# Altium footprint library 1206RGB.PcbLib: 1 footprints
Each footprint in its own frame and in the unit in brackets; x right, y up, seen from the top. Pads: shape width x height; smd on the part's side, far side on the other; paste and mask are expansions set on the pad; w line width, h text height; cw(c..) or ccw(c..) is an arc to the next point about the centre after c.
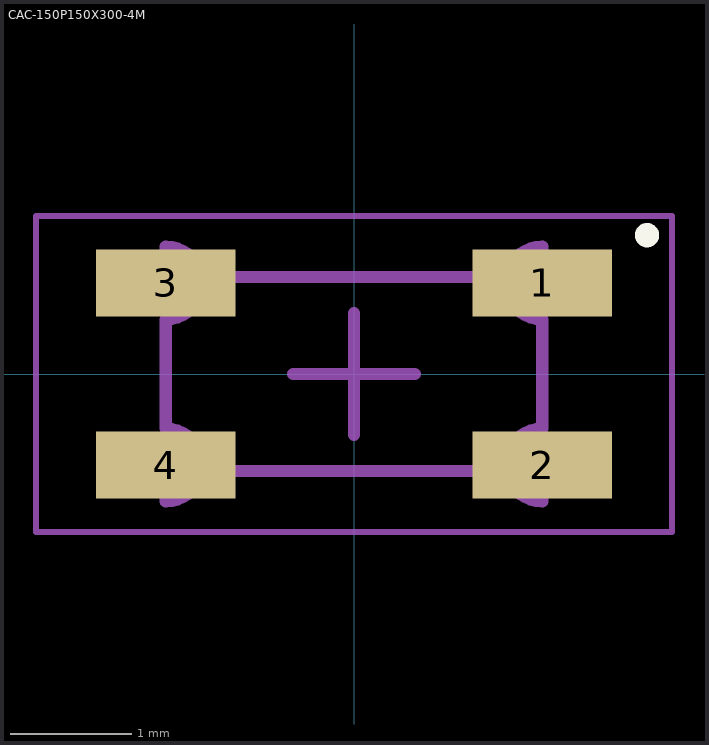
[diagram p0: the footprint, top view; thin cyan lines are the x and y axes]

## CAC-150P150X300-4M [mm] "Chip Array, Concave, 4-Leads, Pitch 1.50mm,  Body 1.50x3.00mm,  IPC Low Density"
height 0.7
pads (4):
  rect 1.15x0.55 smd: 1(1.55,0.75) 2(1.55,-0.75) 3(-1.55,0.75) 4(-1.55,-0.75)
Top Overlay:
  circle w0.1: c2.413,1.143 r0.05
Mechanical 13:
  lines w0.1: -1.55,-1.05 ccw(c-1.55,-0.75) -1.55,-0.45 -1.55,0.45 ccw(c-1.55,0.75) -1.55,1.05 -1.55,0.8 1.55,0.8 1.55,1.05 ccw(c1.55,0.75) 1.55,0.45 1.55,-0.45 ccw(c1.55,-0.75) 1.55,-1.05 1.55,-0.8 -1.55,-0.8 -1.55,-1.05
Mechanical 15:
  lines w0.05: -2.62,-1.3 -2.62,1.3 2.62,1.3 2.62,-1.3 -2.62,-1.3
  lines w0.1: -0.5,0 0.5,0 ; 0,-0.5 0,0.5
3D body: height 0.7, standoff 0, extent -1.55,-0.8 1.55,0.8